# EAGLE library part PIC24FV16KM204 (library MCUs)
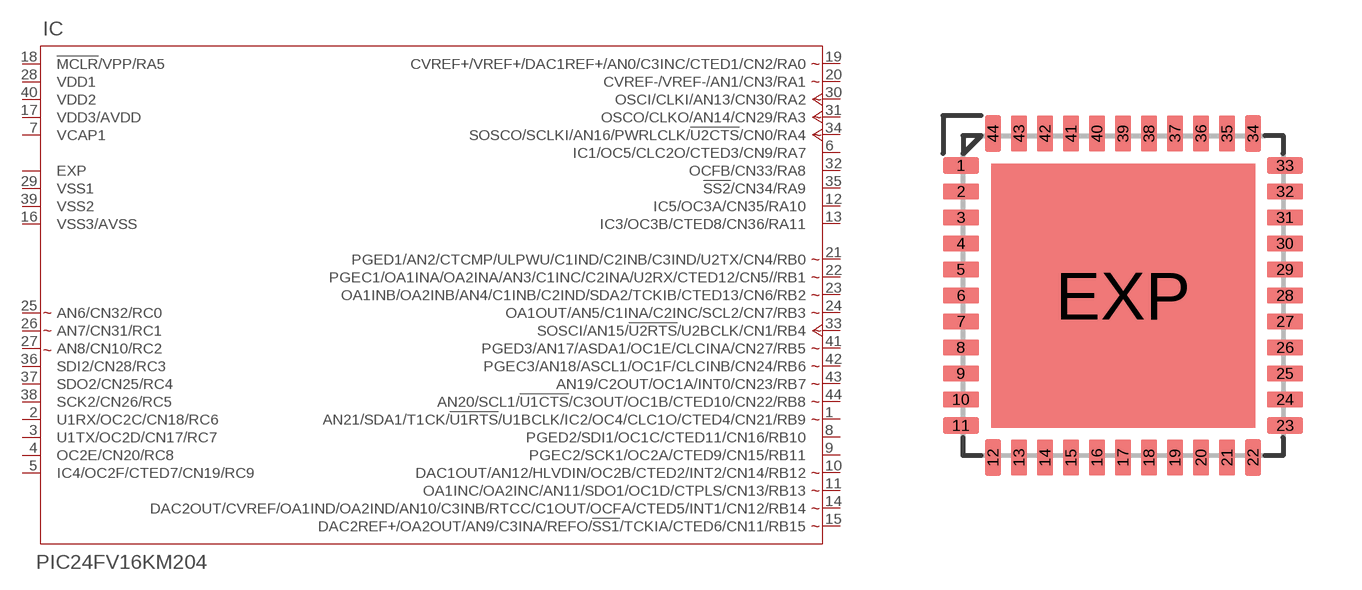
[diagram p8: symbol with the pads of QFN-44; footprint QFN-44]

Designator prefix IC

## PIC24FV16KM204-I/ML  [QFN-44]
1  AN21/SDA1/T1CK/!U1RTS!/U1BCLK/IC2/OC4/CLC1O/CTED4/CN21/RB9  pas
2  U1RX/OC2C/CN18/RC6  pas
3  U1TX/OC2D/CN17/RC7  pas
4  OC2E/CN20/RC8  pas
5  IC4/OC2F/CTED7/CN19/RC9  pas
6  IC1/OC5/CLC2O/CTED3/CN9/RA7  pas
7  VCAP1  pas
8  PGED2/SDI1/OC1C/CTED11/CN16/RB10  pas
9  PGEC2/SCK1/OC2A/CTED9/CN15/RB11  pas
10  DAC1OUT/AN12/HLVDIN/OC2B/CTED2/INT2/CN14/RB12  pas
11  OA1INC/OA2INC/AN11/SDO1/OC1D/CTPLS/CN13/RB13  pas
12  IC5/OC3A/CN35/RA10  pas
13  IC3/OC3B/CTED8/CN36/RA11  pas
14  DAC2OUT/CVREF/OA1IND/OA2IND/AN10/C3INB/RTCC/C1OUT/OCFA/CTED5/INT1/CN12/RB14  pas
15  DAC2REF+/OA2OUT/AN9/C3INA/REFO/!SS1!/TCKIA/CTED6/CN11/RB15  pas
16  VSS3/AVSS  pas
17  VDD3/AVDD  pas
18  !MCLR!/VPP/RA5  pas
19  CVREF+/VREF+/DAC1REF+/AN0/C3INC/CTED1/CN2/RA0  pas
20  CVREF-/VREF-/AN1/CN3/RA1  pas
21  PGED1/AN2/CTCMP/ULPWU/C1IND/C2INB/C3IND/U2TX/CN4/RB0  pas
22  PGEC1/OA1INA/OA2INA/AN3/C1INC/C2INA/U2RX/CTED12/CN5//RB1  pas
23  OA1INB/OA2INB/AN4/C1INB/C2IND/SDA2/TCKIB/CTED13/CN6/RB2  pas
24  OA1OUT/AN5/C1INA/C2INC/SCL2/CN7/RB3  pas
25  AN6/CN32/RC0  pas
26  AN7/CN31/RC1  pas
27  AN8/CN10/RC2  pas
28  VDD1  pas
29  VSS1  pas
30  OSCI/CLKI/AN13/CN30/RA2  pas
31  OSCO/CLKO/AN14/CN29/RA3  pas
32  OCFB/CN33/RA8  pas
33  SOSCI/AN15/!U2RTS!/U2BCLK/CN1/RB4  pas
34  SOSCO/SCLKI/AN16/PWRLCLK/!U2CTS!/CN0/RA4  pas
35  !SS2!/CN34/RA9  pas
36  SDI2/CN28/RC3  pas
37  SDO2/CN25/RC4  pas
38  SCK2/CN26/RC5  pas
39  VSS2  pas
40  VDD2  pas
41  PGED3/AN17/ASDA1/OC1E/CLCINA/CN27/RB5  pas
42  PGEC3/AN18/ASCL1/OC1F/CLCINB/CN24/RB6  pas
43  AN19/C2OUT/OC1A/INT0/CN23/RB7  pas
44  AN20/SCL1/!U1CTS!/C3OUT/OC1B/CTED10/CN22/RB8  pas
EXP  EXP  pas

## Footprint QFN-44 (pad centres in mm)
smd 0.9 x 0.4: 1 -4.05,3.25; 2 -4.05,2.6; 3 -4.05,1.95; 4 -4.05,1.3; 5 -4.05,0.65; 6 -4.05,0; 7 -4.05,-0.65; 8 -4.05,-1.3; 9 -4.05,-1.95; 10 -4.05,-2.6; 11 -4.05,-3.25; 23 4.05,-3.25; 24 4.05,-2.6; 25 4.05,-1.95; 26 4.05,-1.3; 27 4.05,-0.65; 28 4.05,0; 29 4.05,0.65; 30 4.05,1.3; 31 4.05,1.95; 32 4.05,2.6; 33 4.05,3.25
smd 0.4 x 0.9: 12 -3.25,-4.05; 13 -2.6,-4.05; 14 -1.95,-4.05; 15 -1.3,-4.05; 16 -0.65,-4.05; 17 0,-4.05; 18 0.65,-4.05; 19 1.3,-4.05; 20 1.95,-4.05; 21 2.6,-4.05; 22 3.25,-4.05; 34 3.25,4.05; 35 2.6,4.05; 36 1.95,4.05; 37 1.3,4.05; 38 0.65,4.05; 39 0,4.05; 40 -0.65,4.05; 41 -1.3,4.05; 42 -1.95,4.05; 43 -2.6,4.05; 44 -3.25,4.05
smd 6.6 x 6.6: EXP 0,0